# EAGLE library part 74HC4852 (library bschulz)
74HC4852 - Analog Multiplexer, Dual 4-Channel (1:4 x 2) Characteristics: VCC: 2 ~ 6V RON: 195Ω RCh-Ch: 3Ω, max Operating Temperature: -40°C to 85°C Digikey: 1727-7953-1-ND <https://www.digikey.com/en/products/detail/nexperia-usa-inc/74HC4852BQ-Q100-11/3678903>
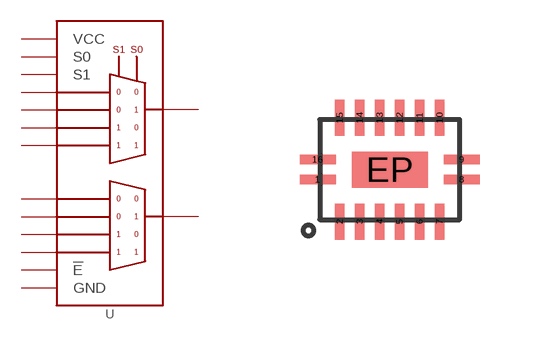
[diagram p159: symbol with the pads of VQFN-16; footprint VQFN-16]

Designator prefix U

## 74HC4852 (DIGIKEY: 1727-7953-1-ND; DISP: 74HC4852; MF: Nexperia; MPN: 74HC4852BQ-Q100,11)  [VQFN-16]
1  2Y0  in
2  2Y2  in
3  2Z  out
4  2Y3  in
5  2Y1  in
6  !E  in
8  GND  pwr
9  S1  in
10  S0  in
11  1Y3  in
12  1Y0  in
13  1Z  out
14  1Y1  in
15  1Y2  in
16  VCC  pwr
EP  GND  pwr

## Footprint VQFN-16 (pad centres in mm)
DHVQFN, 16 Pos (SOT763-1) Datasheet <https://assets.nexperia.com/documents/package-information/SOT763-1.pdf>
smd 0.9 x 0.24: 1 -1.8,-0.25; 8 1.8,-0.25; 9 1.8,0.25; 16 -1.8,0.25
smd 0.24 x 0.9: 2 -1.25,-1.3; 3 -0.75,-1.3; 4 -0.25,-1.3; 5 0.25,-1.3; 6 0.75,-1.3; 7 1.25,-1.3; 10 1.25,1.3; 11 0.75,1.3; 12 0.25,1.3; 13 -0.25,1.3; 14 -0.75,1.3; 15 -1.25,1.3
smd 1.9 x 0.9: EP 0,0